# Altium schematic symbol library Modbus.SchLib: 18 symbols
Pins are listed as number, name and electrical type; pins without a type are passive.

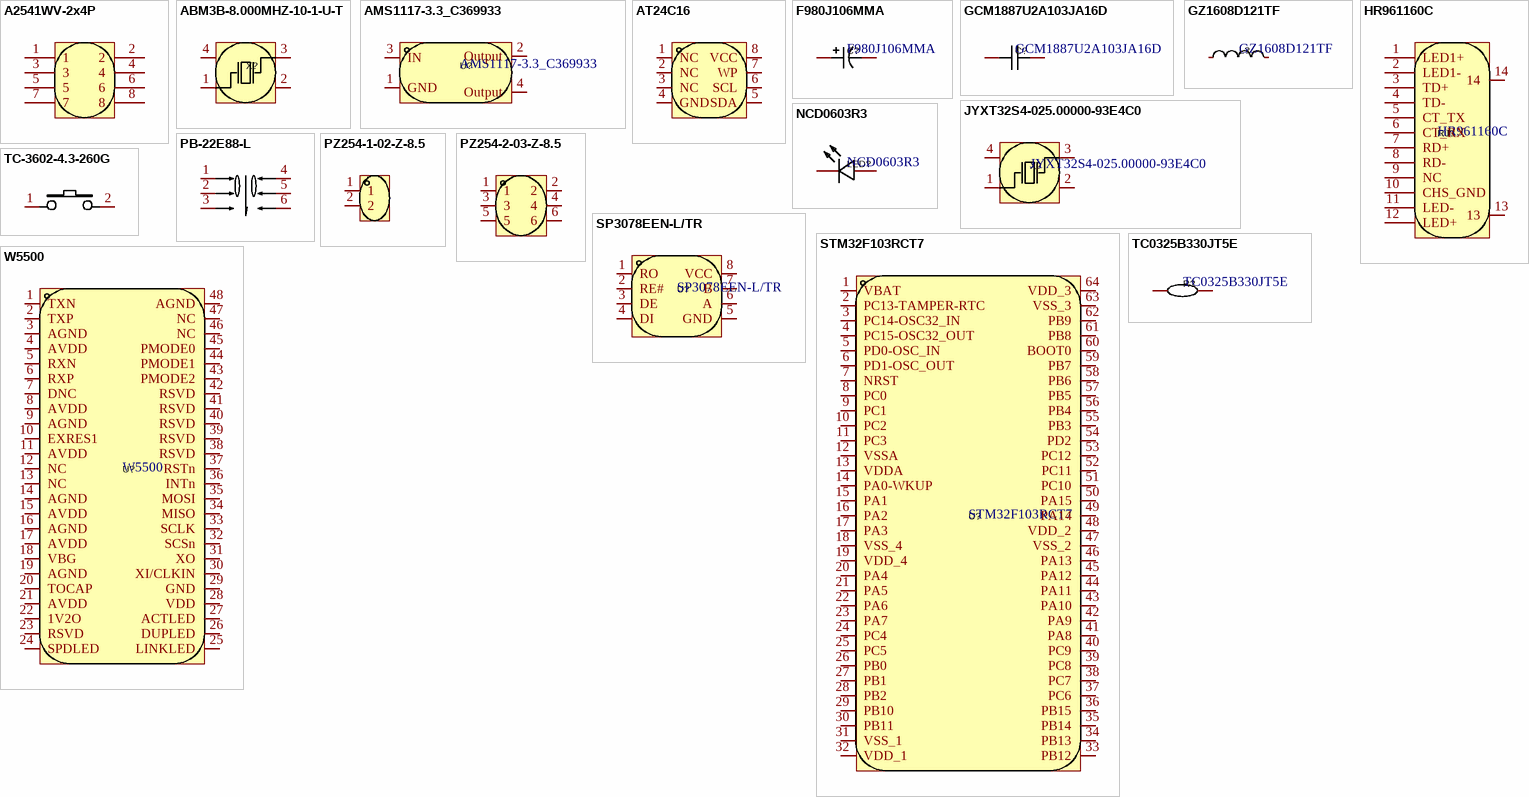
[diagram p0: symbols A2541WV-2x4P to W5500]

## A2541WV-2x4P
designator H?  (value not drawn)
2*4P排针; Manufacturer: CJT(长江连接器); Add into BOM: yes; Pitch: 2.54mm; Pin Structure: 2x4P; Circluar Pins/Square Pins: 方针; Name: A2541WV-2x4P; Symbol: A2541WV-2X4P; Device: A2541WV-2x4P; LCSC Part Name: 2.54mm 2x4P 直插 方针 镀金; Supplier Part: C225519; Manufacturer Part: A2541WV-2x4P; Supplier Footprint: 插件,P=2.54mm; JLCPCB Part Class: Extended Part; Datasheet: https://atta.szlcsc.com/upload/public/pdf/source/20180509/C225519_93746B99266AA550760B05B3359A404E.pdf; Supplier: LCSC; Convert to PCB: yes; Number of Pins: 8; Number of Rows: 2; Row Spacing: 2.54mm; Mounting Type: 直插; Current Rating (Max): -; Voltage Rating (Max): -; Length of Mating Pin: 6mm; Insulation Height: 2.54mm; Length of End Connection Pin: 3mm; Contact Material: 黄铜; Contact Plating: -; Operating Temperature Range: -40℃~+105℃; Color: 黑色
3D model HDR2.54-M-LI-2x4P
pins: 1, 2, 3, 4, 5, 6, 7, 8

## ABM3B-8.000MHZ-10-1-U-T
designator X?  (value not drawn)
8MHz晶振; Manufacturer: ABRACON; Add into BOM: yes; Name: -; Symbol: ABM3B-8.000MHZ-10-1-U-T; Device: ABM3B-8.000MHZ-10-1-U-T; LCSC Part Name: CRYSTAL 8.0000MHZ 10PF; Supplier Part: C276420; Manufacturer Part: ABM3B-8.000MHZ-10-1-U-T; Supplier Footprint: SMD5032-4P; JLCPCB Part Class: Extended Part; Datasheet: https://atta.szlcsc.com/upload/public/pdf/source/20180906/C276420_1CF0E3E9097A131D4BFC03E4139180FB.pdf; Supplier: LCSC; Convert to PCB: yes; Crystal Type: -; Value: -; Frequency Tolerance: -; Frequency Stability: -; Load Capacitance: -; Operating Temperature: -
3D model OSC-SMD_4P-L5.0-W3.2-H1.0
pins: 1 OSC1, 2 GND, 3 OSC2, 4 GND

## AMS1117-3.3_C369933
designator U?
降压芯片; Manufacturer: KEXIN(科信); Add into BOM: yes; Output Type: 固定; Output Polarity: 正; Number of Outputs: 1; Maximum Input Voltage: 18V; Output Voltage: 3.3V; Dropout Voltage: 1.3V@800mA; Quiescent Current (Ground Current): 8mA; Output Current: 1A; Name: AMS1117-3.3; Symbol: AMS1117-3.3_C369933; Device: AMS1117-3.3_C369933; LCSC Part Name: Vin=18V Vout=3.3V 1A; Supplier Part: C369933; Manufacturer Part: AMS1117-3.3; Supplier Footprint: SOT-223; JLCPCB Part Class: Extended Part; Datasheet: https://atta.szlcsc.com/upload/public/pdf/source/20190724/C369933_94137CB0CFA8D6ABD8E5DA714A2C2C4B.pdf; Supplier: LCSC; Convert to PCB: yes; Power Supply Rejection Ratio (PSRR): -; Noise: -; Feature: -; Operating Temperature: -
3D model SOT-223-4P_L6.5-W3.5-H1.6-LS7.0-P2.30
pins: 1 GND, 2 Output, 3 IN, 4 Output

## AT24C16
designator U?  (value not drawn)
EEPROM; Manufacturer: IDCHIP(英锐芯); Add into BOM: yes; Name: AT24C16; Symbol: AT24C16; Device: AT24C16; LCSC Part Name: AT24C16; Supplier Part: C561263; Manufacturer Part: AT24C16; Supplier Footprint: SOP-8; JLCPCB Part Class: Extended Part; Datasheet: https://atta.szlcsc.com/upload/public/pdf/source/20200527/C561263_AC234663A499CF0B5C3BE8C2059C2B18.pdf; Supplier: LCSC; Convert to PCB: yes; Memory Type: -; Memory Format: -; Memory Size: -; Memory Interface: -; Voltage - Supply: -
pins: 1 NC, 2 NC, 3 NC, 4 GND, 5 SDA, 6 SCL, 7 WP, 8 VCC

## F980J106MMA
designator C?
钽电容; Manufacturer: Kyocera AVX; Add into BOM: yes; Name: F980J106MMA; Symbol: F980J106MMA; Device: F980J106MMA; LCSC Part Name: 钽电容; Supplier Part: C4153836; Manufacturer Part: F980J106MMA; Supplier Footprint: 0603; JLCPCB Part Class: Extended Part; Datasheet: https://atta.szlcsc.com/upload/public/pdf/source/20211207/218718C9D5A7FAAA07FA57F61A08BACF.pdf; Supplier: LCSC; Convert to PCB: yes
3D model CAP-SMD_L1.6-W0.9-FD
pins: 1, 2

## GCM1887U2A103JA16D
designator C?
电容; Manufacturer: muRata(村田); Add into BOM: yes; Name: GCM1887U2A103JA16D; Symbol: GCM1887U2A103JA16D; Device: GCM1887U2A103JA16D; LCSC Part Name: 电容; Supplier Part: C2986269; Manufacturer Part: GCM1887U2A103JA16D; Supplier Footprint: 0603; JLCPCB Part Class: Extended Part; Datasheet: https://atta.szlcsc.com/upload/public/pdf/source/20220725/4E0CF642079D992081E87782F4D32939.pdf; Supplier: LCSC; Convert to PCB: yes
3D model C0603_L1.6-W0.8-H0.8
pins: 1, 2

## GZ1608D121TF
designator L?
磁珠; Manufacturer: Sunlord(顺络); Symbol: GZ1608D121TF-C12391; Add into BOM: yes; Impedance @ Frequency: 120Ω@100MHz; Tolerance: ±25%; DC Resistance: 200mΩ; Current Rating: 300mA; Circuits: 1; Name: GZ1608D121TF; Device: GZ1608D121TF; LCSC Part Name: 120Ω@100MHz ±25%; Supplier Part: C12391; Manufacturer Part: GZ1608D121TF; Supplier Footprint: 0603; JLCPCB Part Class: Extended Part; Datasheet: https://atta.szlcsc.com/upload/public/pdf/source/20210830/355EA7C0FAC5394FC0FE3F17C770C20A.pdf; Supplier: LCSC; Convert to PCB: yes
3D model L0603_L1.6-W0.8-H0.5_BEAD
pins: 1, 2

## HR961160C
designator RJ?
RJ45; Manufacturer: HANRUN(汉仁); Add into BOM: yes; Connector Type: RJ插座; Number of Ports: 1; LED: 有; Name: HR961160C; Symbol: HR961160C; Device: HR961160C; LCSC Part Name: RJ45 1*1 带灯; Supplier Part: C55683; Manufacturer Part: HR961160C; Supplier Footprint: 插件; JLCPCB Part Class: Extended Part; Datasheet: https://atta.szlcsc.com/upload/public/pdf/source/20151014/1457707458793.pdf; Supplier: LCSC; Convert to PCB: yes; USOC Codes: RJ45; Ratings: -; Shielding: -
footprint RJ45-SMD_HR961160C (RJ45)
3D model RJ45-SMD_HR961160C
pins: 1 LED1+, 2 LED1-, 3 TD+, 4 TD-, 5 CT_TX, 6 CT_RX, 7 RD+, 8 RD-, 9 NC, 10 CHS_GND, 11 LED-, 12 LED+, 13, 14

## JYXT32S4-025.00000-93E4C0
designator X?
25Mhz晶振; Manufacturer: JINGYOU(晶优); Add into BOM: yes; Name: -; Symbol: JYXT32S4-025.00000-93E4C0; Device: JYXT32S4-025.00000-93E4C0; LCSC Part Name: 25MHz 12pF; Supplier Part: C394378; Manufacturer Part: JYXT32S4-025.00000-93E4C0; Supplier Footprint: SMD3225-4P; JLCPCB Part Class: Extended Part; Datasheet: https://atta.szlcsc.com/upload/public/pdf/source/20190902/C394378_A3BD37707606032D901F464AD0418325.pdf; Supplier: LCSC; Convert to PCB: yes; Crystal Type: -; Value: -; Frequency Tolerance: -; Frequency Stability: -; Load Capacitance: -; Operating Temperature: -
footprint OSC-SMD_4P-L3.2-W2.5-BL (25MHz晶振)
3D model OSC-SMD_4P-L3.2-W2.5-H1.0
pins: 1 OSC1, 2 GND, 3 OSC2, 4 GND

## NCD0603R3
designator LED?
LED; Manufacturer: 国星光电; Add into BOM: yes; Name: NCD0603R3; Symbol: NCD0603R3; Device: NCD0603R3; LCSC Part Name: 红色;贴片LED;0603红灯;; Supplier Part: C3151730; Manufacturer Part: NCD0603R3; Supplier Footprint: 0603; JLCPCB Part Class: Extended Part; Datasheet: https://atta.szlcsc.com/upload/public/pdf/source/20220704/CBFF28C1847A97213A75929E60B7DDE7.pdf; Supplier: LCSC; Convert to PCB: yes
3D model LED0603-RD_RED
pins: 1 A, 2 K

## PB-22E88-L
designator U?  (value not drawn)
自锁开关; Manufacturer: DEALON(德艺隆); Add into BOM: yes; Name: PB-22E88-L; Symbol: PB-22E88-L; Device: PB-22E88-L; LCSC Part Name: 按键自锁开关8.0x8.0; Supplier Part: C2998782; Manufacturer Part: PB-22E88-L; Supplier Footprint: 插件; JLCPCB Part Class: Extended Part; Datasheet: https://atta.szlcsc.com/upload/public/pdf/source/20220810/0909467D1264A60C672FFF530B823A2E.pdf; Supplier: LCSC; Convert to PCB: yes
3D model SW-TH_6P-L8.5-W8.5-P2.54
pins: 1 NC, 2 COM, 3 NO, 4 NC, 5 COM, 6 NO

## PZ254-1-02-Z-8.5
designator U?  (value not drawn)
2P排针; Manufacturer: HCTL(华灿天禄); Symbol: PZ254-1-02-Z-8.5_C3012204; Add into BOM: yes; Name: PZ254-1-02-Z-8.5; Device: PZ254-1-02-Z-8.5; LCSC Part Name: 2.54mm; Supplier Part: C3012204; Manufacturer Part: PZ254-1-02-Z-8.5; Supplier Footprint: 直插,P=2.54mm; JLCPCB Part Class: Extended Part; Datasheet: https://atta.szlcsc.com/upload/public/pdf/source/20210915/C60D3389AEF9552CB6A0EAA67D6CA963.pdf; Supplier: LCSC; Convert to PCB: yes
3D model HDR2.54-M-LI-1X2P
pins: 1, 2

## PZ254-2-03-Z-8.5
designator H?  (value not drawn)
2*3P排针; Manufacturer: HCTL(华灿天禄); Symbol: PZ254-2-03-Z-8.5_C3012243; Add into BOM: yes; Name: PZ254-2-03-Z-8.5; Device: PZ254-2-03-Z-8.5; LCSC Part Name: 2.54mm; Supplier Part: C3012243; Manufacturer Part: PZ254-2-03-Z-8.5; Supplier Footprint: 直插,P=2.54mm; JLCPCB Part Class: Extended Part; Datasheet: https://atta.szlcsc.com/upload/public/pdf/source/20210915/E3977301F478846005E71BEA7AEDCDFF.pdf; Supplier: LCSC; Convert to PCB: yes
3D model HDR-TH_6P-P2.54-M-LI-2X3P
pins: 1, 2, 3, 4, 5, 6

## SP3078EEN-L/TR
designator U?
RS485; Manufacturer: MaxLinear; Add into BOM: yes; Types: 收发器; Driver/receiver: 1/1; Data Rate: 16Mbps; Supply Voltage: 3.3V; Name: SP3078EEN-L/TR; Symbol: SP3078EEN-L/TR; Device: SP3078EEN-L/TR; LCSC Part Name: 16Mbps; Supplier Part: C95362; Manufacturer Part: SP3078EEN-L/TR; Supplier Footprint: NSOIC-8; JLCPCB Part Class: Extended Part; Datasheet: https://atta.szlcsc.com/upload/public/pdf/source/20180326/C95362_3126FD3C6373DE88893D9009C84BD901.pdf; Supplier: LCSC; Convert to PCB: yes
3D model SOIC-8_L4.9-W3.9-H1.7-LS6.0-P1.27
pins: 1 RO, 2 RE#, 3 DE, 4 DI, 5 GND, 6 A, 7 B, 8 VCC

## STM32F103RCT7
designator U?
单片机; Manufacturer: ST(意法半导体); Add into BOM: yes; Name: STM32F103RCT7; Symbol: STM32F103RCT7; Device: STM32F103RCT7; LCSC Part Name: STM32F103RCT7; Supplier Part: C882165; Manufacturer Part: STM32F103RCT7; Supplier Footprint: LQFP-64; JLCPCB Part Class: Extended Part; Datasheet: https://atta.szlcsc.com/upload/public/pdf/source/20191104/C443969_BBB78F97FCB1C210242AC41DD2A995A0.pdf; Supplier: LCSC; Convert to PCB: yes
3D model LQFP-64_L10.0-W10.0-H1.4-LS12.0-P0.50
pins: 1 VBAT, 2 PC13-TAMPER-RTC, 3 PC14-OSC32_IN, 4 PC15-OSC32_OUT, 5 PD0-OSC_IN, 6 PD1-OSC_OUT, 7 NRST, 8 PC0, 9 PC1, 10 PC2, 11 PC3, 12 VSSA, 13 VDDA, 14 PA0-WKUP, 15 PA1, 16 PA2, 17 PA3, 18 VSS_4, 19 VDD_4, 20 PA4, 21 PA5, 22 PA6, 23 PA7, 24 PC4, 25 PC5, 26 PB0, 27 PB1, 28 PB2, 29 PB10, 30 PB11, 31 VSS_1, 32 VDD_1, 33 PB12, 34 PB13, 35 PB14, 36 PB15, 37 PC6, 38 PC7, 39 PC8, 40 PC9, 41 PA8, 42 PA9, 43 PA10, 44 PA11, 45 PA12, 46 PA13, 47 VSS_2, 48 VDD_2, 49 PA14, 50 PA15, 51 PC10, 52 PC11, 53 PC12, 54 PD2, 55 PB3, 56 PB4, 57 PB5, 58 PB6, 59 PB7, 60 BOOT0, 61 PB8, 62 PB9, 63 VSS_3, 64 VDD_3

## TC0325B330JT5E
designator R?
电阻; Manufacturer: UNI-ROYAL(厚声); Name: 33Ω; Add into BOM: yes; Value: 33Ω; Tolerance: ±0.1%; Power(Watts): 166.667mW; Temperature Coefficient: ±25ppm/℃; Overload Voltage (Max): 75V; Symbol: TC0325B330JT5E; Device: TC0325B330JT5E; LCSC Part Name: 33Ω ±0.1% 166.667mW; Supplier Part: C61958; Manufacturer Part: TC0325B330JT5E; Supplier Footprint: 0603; JLCPCB Part Class: Extended Part; Datasheet: https://atta.szlcsc.com/upload/public/pdf/source/20190404/C61958_CC7C54455B4CAE3BAEFDAC24C5E38D4A.pdf; Supplier: LCSC; Convert to PCB: yes; Operating Temperature Range: -55℃~+155℃
3D model R0603_L1.6-W0.8-H0.8
pins: 1, 2

## TC-3602-4.3-260G
designator KEY?  (value not drawn)
轻触开关; Manufacturer: HCTL(华灿天禄); Symbol: TC-3602-4.3-260GKK; Add into BOM: yes; Name: TC-3602-4.3-260G; Device: TC-3602-4.3-260G; LCSC Part Name: 开关; Supplier Part: C3012022; Manufacturer Part: TC-3602-4.3-260G; Supplier Footprint: SMD; JLCPCB Part Class: Extended Part; Datasheet: https://atta.szlcsc.com/upload/public/pdf/source/20210730/C2845293_5277CDF8C59032B794BE536E6FDEACDD.pdf; Supplier: LCSC; Convert to PCB: yes
3D model KEY-SMD_L6.0-W3.6-LS8.3-L
pins: 1, 2

## W5500
designator U?
以太网控制芯片; Manufacturer: WIZNET; Add into BOM: yes; Standards: 10/100 Base-T/TX PHY; Interface: SPI; Supply Voltage: 2.97V ~ 3.63V; Supply Current: 132mA; Name: W5500; Symbol: W5500; Device: W5500; LCSC Part Name: W5500; Supplier Part: C32843; Manufacturer Part: W5500; Supplier Footprint: LQFP-48_7x7x05P; JLCPCB Part Class: Extended Part; Datasheet: https://atta.szlcsc.com/upload/public/pdf/source/20140704/1457707126739.pdf; Supplier: LCSC; Convert to PCB: yes; Type: Ethernet Controllers; Number of Channels: -
footprint LQFP-48_L7.0-W7.0-P0.50-LS9.0-BL (W5500-以太网控制芯片)
3D model LQFP-48_L7.0-W7.0-H1.4-LS9.0-P0.50
pins: 1 TXN, 2 TXP, 3 AGND, 4 AVDD, 5 RXN, 6 RXP, 7 DNC, 8 AVDD, 9 AGND, 10 EXRES1, 11 AVDD, 12 NC, 13 NC, 14 AGND, 15 AVDD, 16 AGND, 17 AVDD, 18 VBG, 19 AGND, 20 TOCAP, 21 AVDD, 22 1V2O, 23 RSVD, 24 SPDLED, 25 LINKLED, 26 DUPLED, 27 ACTLED, 28 VDD, 29 GND, 30 XI/CLKIN, 31 XO, 32 SCSn, 33 SCLK, 34 MISO, 35 MOSI, 36 INTn, 37 RSTn, 38 RSVD, 39 RSVD, 40 RSVD, 41 RSVD, 42 RSVD, 43 PMODE2, 44 PMODE1, 45 PMODE0, 46 NC, 47 NC, 48 AGND